# Altium footprint library Connector_JST.PcbLib: 558 footprints (part 25 of 35)
Each footprint in its own frame and in the unit in brackets; x right, y up, seen from the top. Pads: shape width x height; smd on the part's side, far side on the other; paste and mask are expansions set on the pad; w line width, h text height; cw(c..) or ccw(c..) is an arc to the next point about the centre after c.
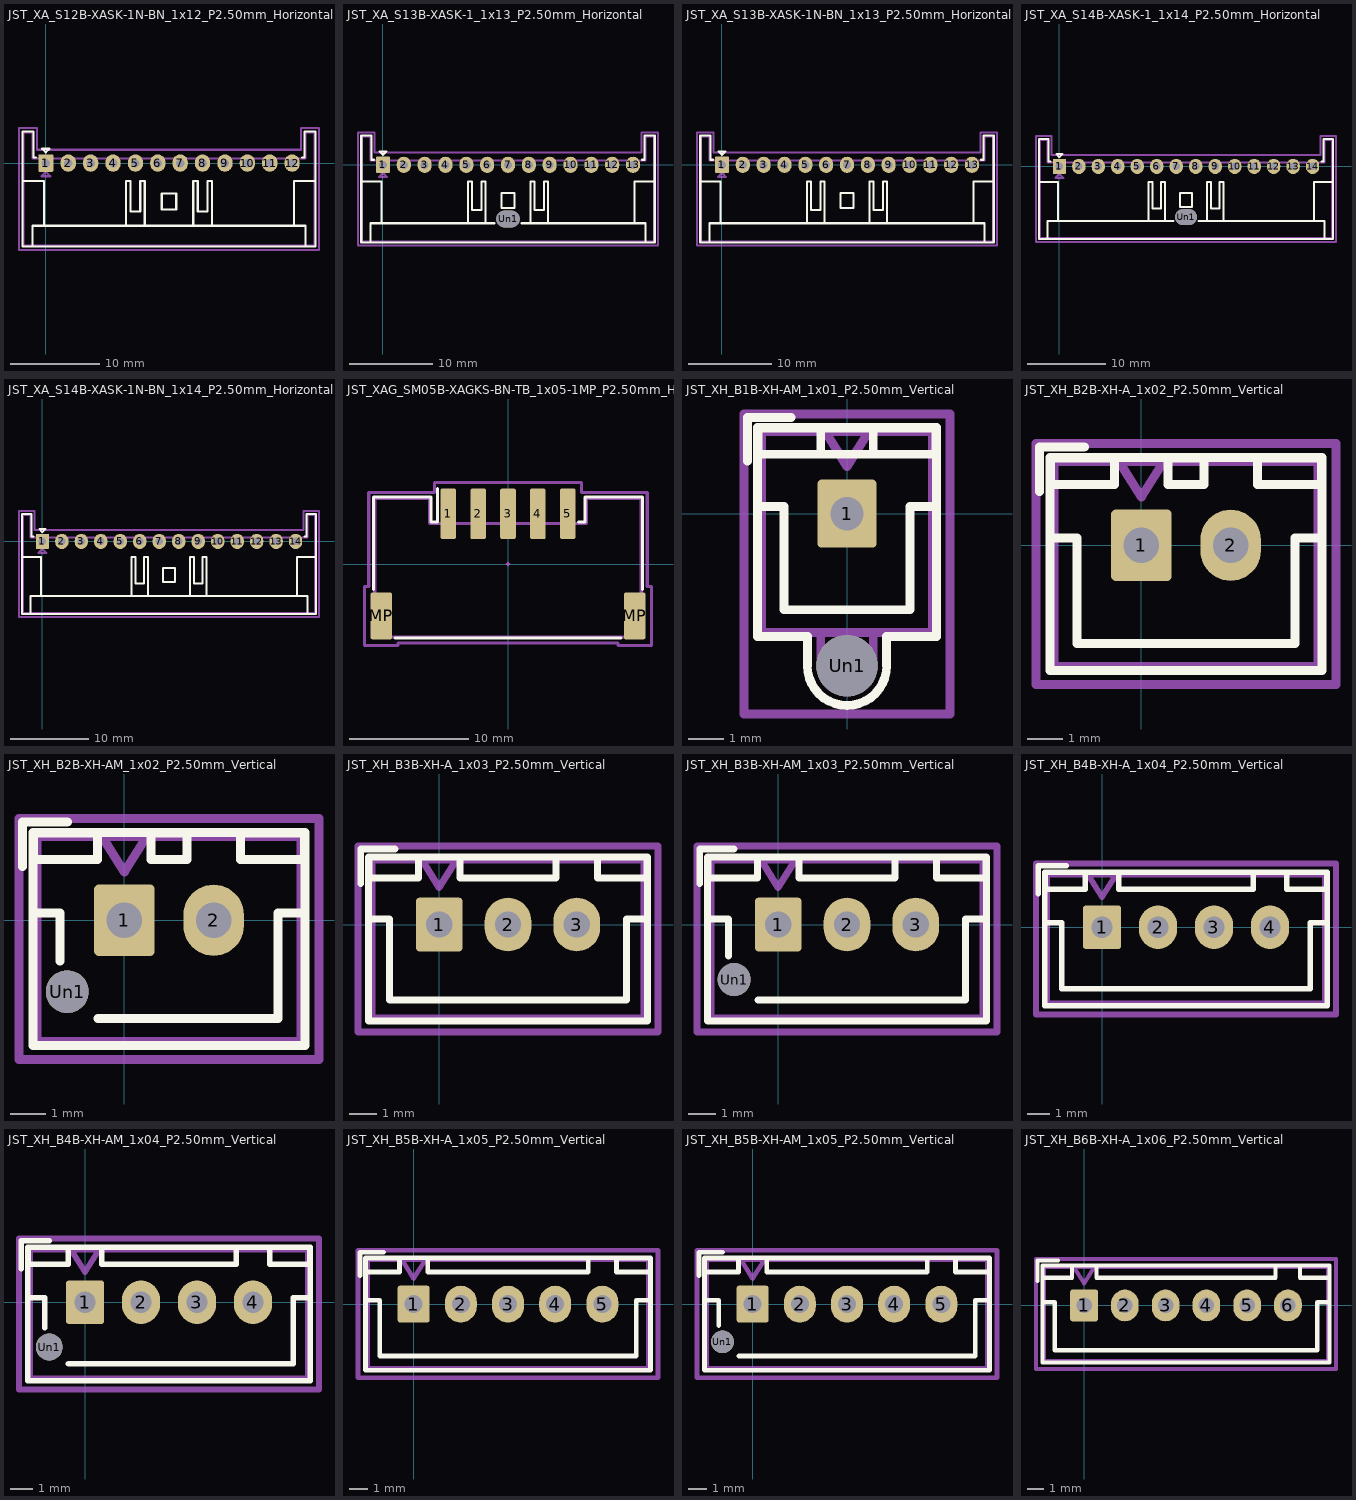
[diagram p24: the footprints below, top view; thin cyan lines are the x and y axes]

## JST_XA_S12B-XASK-1N-BN_1x12_P2.50mm_Horizontal [mm] "JST_XA_S12B-XASK-1N-BN_1x12_P2.50mm_Horizontal"
pads (12):
  rrect15% 1.7x1.95 hole 0.95: 1(0,0)
  rrect100% 1.7x1.95 hole 0.95: 2(2.5,0) 3(5,0) 4(7.5,0) 5(10,0) 6(12.5,0) 7(15,0) 8(17.5,0) 9(20,0) 10(22.5,0) 11(25,0) 12(27.5,0)
F.SilkS:
  lines w0.254: -2.61,-2 -0.2,-2 -0.2,-7.01 ; -1.5,-9.31 -1.5,-7.01 29,-7.01 29,-9.31 ; -1.11,0.61 -1.39,0.61 -1.39,3.51 -2.61,3.51 -2.61,-9.31 30.11,-9.31 30.11,3.51 28.89,3.51 28.89,0.61 28.61,0.61 ; 8.95,-7.01 8.95,-2 9.45,-2 9.45,-5.41 10.55,-5.41 10.55,-2 11.05,-2 11.05,-7.01 ; 16.45,-7.01 16.45,-2 16.95,-2 16.95,-5.41 18.05,-5.41 18.05,-2 18.55,-2 18.55,-7.01 ; 27.7,-7.01 27.7,-2 30.11,-2 ; -0.4,1.6 0,1.2 0.4,1.6 -0.4,1.6 ; 12.95,-5.2 14.55,-5.2 14.55,-3.4 12.95,-3.4 12.95,-5.2
Top Component Center:
  lines w0.127: -0.127,0 0.127,0 ; 0,-0.127 0,0.127
Top Assembly:
  lines w0.254: -2.5,-9.2 30,-9.2 30,3.4 29,3.4 29,0.5 -1.5,0.5 -1.5,3.4 -2.5,3.4 -2.5,-9.2 ; -0.5,-1.475 0,-0.975 0.5,-1.475 -0.5,-1.475
Top Courtyard:
  lines w0.254: -3,-9.7 30.5,-9.7 30.5,3.9 28.5,3.9 28.5,1.48 -1,1.48 -1,3.9 -3,3.9 -3,-9.7
Top Designator:
  text ".Designator" at 10.159,-1.868 h1.52

## JST_XA_S13B-XASK-1_1x13_P2.50mm_Horizontal [mm] "JST_XA_S13B-XASK-1_1x13_P2.50mm_Horizontal"
pads (14):
  rrect15% 1.7x1.95 hole 0.95: 1(0,0)
  rrect100% 1.7x1.95 hole 0.95: 2(2.5,0) 3(5,0) 4(7.5,0) 5(10,0) 6(12.5,0) 7(15,0) 8(17.5,0) 9(20,0) 10(22.5,0) 11(25,0) 12(27.5,0) 13(30,0)
  rrect100% 2.8x2 hole 2 slot 2.8 at 0 deg: Un1(15,-6.5)
F.SilkS:
  lines w0.254: -2.61,-2 -0.2,-2 -0.2,-7.01 ; -1.5,-9.31 -1.5,-7.01 13.4,-7.01 ; -1.11,0.61 -1.39,0.61 -1.39,3.51 -2.61,3.51 -2.61,-9.31 32.61,-9.31 32.61,3.51 31.39,3.51 31.39,0.61 31.11,0.61 ; 10.2,-7.01 10.2,-2 10.7,-2 10.7,-5.41 11.8,-5.41 11.8,-2 12.3,-2 12.3,-7.01 ; 16.6,-7.01 31.5,-7.01 31.5,-9.31 ; 17.7,-7.01 17.7,-2 18.2,-2 18.2,-5.41 19.3,-5.41 19.3,-2 19.8,-2 19.8,-7.01 ; 30.2,-7.01 30.2,-2 32.61,-2 ; -0.4,1.6 0,1.2 0.4,1.6 -0.4,1.6 ; 14.2,-5.2 15.8,-5.2 15.8,-3.4 14.2,-3.4 14.2,-5.2
Top Component Center:
  lines w0.127: -0.127,0 0.127,0 ; 0,-0.127 0,0.127
Top Assembly:
  lines w0.254: -2.5,-9.2 32.5,-9.2 32.5,3.4 31.5,3.4 31.5,0.5 -1.5,0.5 -1.5,3.4 -2.5,3.4 -2.5,-9.2 ; -0.5,-1.475 0,-0.975 0.5,-1.475 -0.5,-1.475
Top Courtyard:
  lines w0.254: -3,-9.7 33,-9.7 33,3.9 31,3.9 31,1.48 -1,1.48 -1,3.9 -3,3.9 -3,-9.7
Top Designator:
  text ".Designator" at 11.556,-1.995 h1.52

## JST_XA_S13B-XASK-1N-BN_1x13_P2.50mm_Horizontal [mm] "JST_XA_S13B-XASK-1N-BN_1x13_P2.50mm_Horizontal"
pads (13):
  rrect15% 1.7x1.95 hole 0.95: 1(0,0)
  rrect100% 1.7x1.95 hole 0.95: 2(2.5,0) 3(5,0) 4(7.5,0) 5(10,0) 6(12.5,0) 7(15,0) 8(17.5,0) 9(20,0) 10(22.5,0) 11(25,0) 12(27.5,0) 13(30,0)
F.SilkS:
  lines w0.254: -2.61,-2 -0.2,-2 -0.2,-7.01 ; -1.5,-9.31 -1.5,-7.01 31.5,-7.01 31.5,-9.31 ; -1.11,0.61 -1.39,0.61 -1.39,3.51 -2.61,3.51 -2.61,-9.31 32.61,-9.31 32.61,3.51 31.39,3.51 31.39,0.61 31.11,0.61 ; 10.2,-7.01 10.2,-2 10.7,-2 10.7,-5.41 11.8,-5.41 11.8,-2 12.3,-2 12.3,-7.01 ; 17.7,-7.01 17.7,-2 18.2,-2 18.2,-5.41 19.3,-5.41 19.3,-2 19.8,-2 19.8,-7.01 ; 30.2,-7.01 30.2,-2 32.61,-2 ; -0.4,1.6 0.4,1.6 0,1.2 -0.4,1.6 ; 14.2,-5.2 14.2,-3.4 15.8,-3.4 15.8,-5.2 14.2,-5.2
Top Component Center:
  lines w0.127: -0.127,0 0.127,0 ; 0,-0.127 0,0.127
Top Assembly:
  lines w0.254: -2.5,-9.2 -2.5,3.4 -1.5,3.4 -1.5,0.5 31.5,0.5 31.5,3.4 32.5,3.4 32.5,-9.2 -2.5,-9.2 ; -0.5,-1.475 0.5,-1.475 0,-0.975 -0.5,-1.475
Top Courtyard:
  lines w0.254: -3,-9.7 -3,3.9 -1,3.9 -1,1.48 31,1.48 31,3.9 33,3.9 33,-9.7 -3,-9.7
Top Designator:
  text ".Designator" at 11.556,-2.122 h1.52

## JST_XA_S14B-XASK-1_1x14_P2.50mm_Horizontal [mm] "JST_XA_S14B-XASK-1_1x14_P2.50mm_Horizontal"
pads (15):
  rrect15% 1.7x1.95 hole 0.95: 1(0,0)
  rrect100% 1.7x1.95 hole 0.95: 2(2.5,0) 3(5,0) 4(7.5,0) 5(10,0) 6(12.5,0) 7(15,0) 8(17.5,0) 9(20,0) 10(22.5,0) 11(25,0) 12(27.5,0) 13(30,0) 14(32.5,0)
  rrect100% 2.8x2 hole 2 slot 2.8 at 0 deg: Un1(16.25,-6.5)
F.SilkS:
  lines w0.254: -2.61,-2 -0.2,-2 -0.2,-7.01 ; -1.5,-9.31 -1.5,-7.01 14.65,-7.01 ; -1.11,0.61 -1.39,0.61 -1.39,3.51 -2.61,3.51 -2.61,-9.31 35.11,-9.31 35.11,3.51 33.89,3.51 33.89,0.61 33.61,0.61 ; 11.45,-7.01 11.45,-2 11.95,-2 11.95,-5.41 13.05,-5.41 13.05,-2 13.55,-2 13.55,-7.01 ; 17.85,-7.01 34,-7.01 34,-9.31 ; 18.95,-7.01 18.95,-2 19.45,-2 19.45,-5.41 20.55,-5.41 20.55,-2 21.05,-2 21.05,-7.01 ; 32.7,-7.01 32.7,-2 35.11,-2 ; -0.4,1.6 0,1.2 0.4,1.6 -0.4,1.6 ; 15.45,-5.2 17.05,-5.2 17.05,-3.4 15.45,-3.4 15.45,-5.2
Top Component Center:
  lines w0.127: -0.127,0 0.127,0 ; 0,-0.127 0,0.127
Top Assembly:
  lines w0.254: -2.5,-9.2 35,-9.2 35,3.4 34,3.4 34,0.5 -1.5,0.5 -1.5,3.4 -2.5,3.4 -2.5,-9.2 ; -0.5,-1.475 0,-0.975 0.5,-1.475 -0.5,-1.475
Top Courtyard:
  lines w0.254: -3,-9.7 35.5,-9.7 35.5,3.9 33.5,3.9 33.5,1.48 -1,1.48 -1,3.9 -3,3.9 -3,-9.7
Top Designator:
  text ".Designator" at 12.826,-1.868 h1.52

## JST_XA_S14B-XASK-1N-BN_1x14_P2.50mm_Horizontal [mm] "JST_XA_S14B-XASK-1N-BN_1x14_P2.50mm_Horizontal"
pads (14):
  rrect15% 1.7x1.95 hole 0.95: 1(0,0)
  rrect100% 1.7x1.95 hole 0.95: 2(2.5,0) 3(5,0) 4(7.5,0) 5(10,0) 6(12.5,0) 7(15,0) 8(17.5,0) 9(20,0) 10(22.5,0) 11(25,0) 12(27.5,0) 13(30,0) 14(32.5,0)
F.SilkS:
  lines w0.254: -2.61,-2 -0.2,-2 -0.2,-7.01 ; -1.5,-9.31 -1.5,-7.01 34,-7.01 34,-9.31 ; -1.11,0.61 -1.39,0.61 -1.39,3.51 -2.61,3.51 -2.61,-9.31 35.11,-9.31 35.11,3.51 33.89,3.51 33.89,0.61 33.61,0.61 ; 11.45,-7.01 11.45,-2 11.95,-2 11.95,-5.41 13.05,-5.41 13.05,-2 13.55,-2 13.55,-7.01 ; 18.95,-7.01 18.95,-2 19.45,-2 19.45,-5.41 20.55,-5.41 20.55,-2 21.05,-2 21.05,-7.01 ; 32.7,-7.01 32.7,-2 35.11,-2 ; -0.4,1.6 0,1.2 0.4,1.6 -0.4,1.6 ; 15.45,-5.2 17.05,-5.2 17.05,-3.4 15.45,-3.4 15.45,-5.2
Top Component Center:
  lines w0.127: -0.127,0 0.127,0 ; 0,-0.127 0,0.127
Top Assembly:
  lines w0.254: -2.5,-9.2 35,-9.2 35,3.4 34,3.4 34,0.5 -1.5,0.5 -1.5,3.4 -2.5,3.4 -2.5,-9.2 ; -0.5,-1.475 0,-0.975 0.5,-1.475 -0.5,-1.475
Top Courtyard:
  lines w0.254: -3,-9.7 35.5,-9.7 35.5,3.9 33.5,3.9 33.5,1.48 -1,1.48 -1,3.9 -3,3.9 -3,-9.7
Top Designator:
  text ".Designator" at 12.826,-1.741 h1.52

## JST_XAG_SM05B-XAGKS-BN-TB_1x05-1MP_P2.50mm_Horizontal [mm] "JST_XAG_SM05B-XAGKS-BN-TB_1x05-1MP_P2.50mm_Horizontal"
pads (7):
  rrect19% 1.3x4.2 smd: 1(-5,4.2) 2(-2.5,4.2) 3(0,4.2) 4(2.5,4.2) 5(5,4.2)
  rrect14% 1.8x3.9 smd: MP(-10.6,-4.35) MP(10.6,-4.35)
F.SilkS:
  lines w0.254: -11.26,-2.14 -11.26,5.61 -6.44,5.61 -6.44,3.51 -5.91,3.51 -5.91,6.3 ; -9.44,-6.21 9.44,-6.21 ; 5.91,3.51 6.44,3.51 6.44,5.61 11.26,5.61 11.26,-2.14
Top Component Center:
  lines w0.127: -0.127,0 0.127,0 ; 0,-0.127 0,0.127
Top Assembly:
  lines w0.254: -5.5,3.4 -5,2.693 -4.5,3.4 ; -11.15,-6.1 11.15,-6.1 11.15,5.5 6.55,5.5 6.55,3.4 -6.55,3.4 -6.55,5.5 -11.15,5.5 -11.15,-6.1
Top Courtyard:
  lines w0.254: -12,-6.8 -9.2,-6.8 -9.2,-6.6 9.2,-6.6 9.2,-6.8 12,-6.8 12,-1.89 11.65,-1.89 11.65,6 6.15,6 6.15,6.8 -6.15,6.8 -6.15,6 -11.65,6 -11.65,-1.89 -12,-1.89 -12,-6.8
Top Designator:
  text ".Designator" at -3.43,-0.344 h1.52

## JST_XH_B1B-XH-AM_1x01_P2.50mm_Vertical [mm] "JST_XH_B1B-XH-AM_1x01_P2.50mm_Vertical"
pads (2):
  rrect15% 1.7x1.95 hole 0.95: 1(0,0)
  round 1.75 hole 1.75: Un1(0,-4.35)
F.SilkS:
  lines w0.254: -2.85,1.5 -2.85,2.75 -1.6,2.75 ; -2.55,0.2 -1.8,0.2 -1.8,-2.75 0,-2.75 1.8,-2.75 1.8,0.2 2.55,0.2 ; -0.75,1.7 -2.55,1.7 -2.55,2.45 -0.75,2.45 ; -0.75,1.7 -0.75,2.45 ; -0.75,1.7 -0.75,2.45 ; -0.75,1.7 0.75,1.7 ; -0.75,2.45 0.75,2.45 ; 0.75,1.7 0.75,2.45 ; 0.75,1.7 0.75,2.45 ; 0.75,1.7 2.55,1.7 2.55,2.45 0.75,2.45 ; -2.56,-3.51 -2.56,2.46 2.56,2.46 2.56,-3.51 1.135,-3.51 1.135,-4.35 cw(c0,-4.35) -1.135,-4.35 -1.135,-3.51 -2.56,-3.51
Top Component Center:
  lines w0.127: -0.127,0 0.127,0 ; 0,-0.127 0,0.127
Top Assembly:
  lines w0.254: -0.625,2.35 0,1.35 0.625,2.35 ; -2.45,-3.4 -2.45,2.35 ; -2.45,-3.4 -2.45,2.35 ; -2.45,-3.4 2.45,-3.4 ; -2.45,-3.4 -0.75,-3.4 -0.75,-4.35 ccw(c0,-4.35) 0.75,-4.35 0.75,-3.4 2.45,-3.4 ; -2.45,2.35 2.45,2.35 ; -2.45,2.35 2.45,2.35 ; 2.45,-3.4 2.45,2.35 ; 2.45,-3.4 2.45,2.35
Top Courtyard:
  lines w0.254: -2.95,-5.73 -2.95,2.85 2.95,2.85 2.95,-5.73 -2.95,-5.73
Top Designator:
  text ".Designator" at -3.303,-2.122 h1.52

## JST_XH_B2B-XH-A_1x02_P2.50mm_Vertical [mm] "JST_XH_B2B-XH-A_1x02_P2.50mm_Vertical"
pads (2):
  rrect15% 1.7x2 hole 1: 1(0,0)
  rrect100% 1.7x2 hole 1: 2(2.5,0)
F.SilkS:
  lines w0.254: -2.85,1.5 -2.85,2.75 -1.6,2.75 ; -2.55,0.2 -1.8,0.2 -1.8,-2.75 1.25,-2.75 4.3,-2.75 4.3,0.2 5.05,0.2 ; -2.56,-3.51 5.06,-3.51 5.06,2.46 -2.56,2.46 -2.56,-3.51 ; -2.55,1.7 -0.75,1.7 -0.75,2.45 -2.55,2.45 -2.55,1.7 ; 0.75,1.7 1.75,1.7 1.75,2.45 0.75,2.45 0.75,1.7 ; 3.25,1.7 5.05,1.7 5.05,2.45 3.25,2.45 3.25,1.7
Top Component Center:
  lines w0.127: -0.127,0 0.127,0 ; 0,-0.127 0,0.127
Top Assembly:
  lines w0.254: -0.625,2.35 0,1.35 0.625,2.35 ; -2.45,-3.4 4.95,-3.4 4.95,2.35 -2.45,2.35 -2.45,-3.4
Top Courtyard:
  lines w0.254: -2.95,-3.9 5.45,-3.9 5.45,2.85 -2.95,2.85 -2.95,-3.9
Top Designator:
  text ".Designator" at -2.287,-2.249 h1.52
3D body "JST_XH_B2B-XH-A_1x02_P2.50mm_Vertical.step": height 7, standoff -3.4, extent -2.45,-3.4 4.95,2.35

## JST_XH_B2B-XH-AM_1x02_P2.50mm_Vertical [mm] "JST_XH_B2B-XH-AM_1x02_P2.50mm_Vertical"
pads (3):
  rrect15% 1.7x2 hole 1: 1(0,0)
  rrect100% 1.7x2 hole 1: 2(2.5,0)
  round 1.2 hole 1.2: Un1(-1.6,-2)
F.SilkS:
  lines w0.254: -2.85,1.5 -2.85,2.75 -1.6,2.75 ; -2.55,0.2 -1.8,0.2 -1.8,-1.14 ; -0.74,-2.75 1.25,-2.75 4.3,-2.75 4.3,0.2 5.05,0.2 ; -2.56,-3.51 5.06,-3.51 5.06,2.46 -2.56,2.46 -2.56,-3.51 ; -2.55,1.7 -0.75,1.7 -0.75,2.45 -2.55,2.45 -2.55,1.7 ; 0.75,1.7 1.75,1.7 1.75,2.45 0.75,2.45 0.75,1.7 ; 3.25,1.7 5.05,1.7 5.05,2.45 3.25,2.45 3.25,1.7
Top Component Center:
  lines w0.127: -0.127,0 0.127,0 ; 0,-0.127 0,0.127
Top Assembly:
  lines w0.254: -0.625,2.35 0,1.35 0.625,2.35 ; -2.45,-3.4 4.95,-3.4 4.95,2.35 -2.45,2.35 -2.45,-3.4
Top Courtyard:
  lines w0.254: -2.95,-3.9 5.45,-3.9 5.45,2.85 -2.95,2.85 -2.95,-3.9
Top Designator:
  text ".Designator" at -2.16,-2.122 h1.52

## JST_XH_B3B-XH-A_1x03_P2.50mm_Vertical [mm] "JST_XH_B3B-XH-A_1x03_P2.50mm_Vertical"
pads (3):
  rrect15% 1.7x1.95 hole 0.95: 1(0,0)
  rrect100% 1.7x1.95 hole 0.95: 2(2.5,0) 3(5,0)
F.SilkS:
  lines w0.254: -2.85,1.5 -2.85,2.75 -1.6,2.75 ; -2.55,0.2 -1.8,0.2 -1.8,-2.75 2.5,-2.75 6.8,-2.75 6.8,0.2 7.55,0.2 ; -2.56,-3.51 7.56,-3.51 7.56,2.46 -2.56,2.46 -2.56,-3.51 ; -2.55,1.7 -0.75,1.7 -0.75,2.45 -2.55,2.45 -2.55,1.7 ; 0.75,1.7 4.25,1.7 4.25,2.45 0.75,2.45 0.75,1.7 ; 5.75,1.7 7.55,1.7 7.55,2.45 5.75,2.45 5.75,1.7
Top Component Center:
  lines w0.127: -0.127,0 0.127,0 ; 0,-0.127 0,0.127
Top Assembly:
  lines w0.254: -0.625,2.35 0,1.35 0.625,2.35 ; -2.45,-3.4 7.45,-3.4 7.45,2.35 -2.45,2.35 -2.45,-3.4
Top Courtyard:
  lines w0.254: -2.95,-3.9 7.95,-3.9 7.95,2.85 -2.95,2.85 -2.95,-3.9
Top Designator:
  text ".Designator" at -0.763,-2.122 h1.52
3D body "JST_XH_B3B-XH-A_1x03_P2.50mm_Vertical.step": height 7, standoff -3.4, extent -2.45,-3.4 7.45,2.35

## JST_XH_B3B-XH-AM_1x03_P2.50mm_Vertical [mm] "JST_XH_B3B-XH-AM_1x03_P2.50mm_Vertical"
pads (4):
  rrect15% 1.7x1.95 hole 0.95: 1(0,0)
  rrect100% 1.7x1.95 hole 0.95: 2(2.5,0) 3(5,0)
  round 1.2 hole 1.2: Un1(-1.6,-2)
F.SilkS:
  lines w0.254: -2.85,1.5 -2.85,2.75 -1.6,2.75 ; -2.55,0.2 -1.8,0.2 -1.8,-1.14 ; -0.74,-2.75 2.5,-2.75 6.8,-2.75 6.8,0.2 7.55,0.2 ; -2.56,-3.51 7.56,-3.51 7.56,2.46 -2.56,2.46 -2.56,-3.51 ; -2.55,1.7 -0.75,1.7 -0.75,2.45 -2.55,2.45 -2.55,1.7 ; 0.75,1.7 4.25,1.7 4.25,2.45 0.75,2.45 0.75,1.7 ; 5.75,1.7 7.55,1.7 7.55,2.45 5.75,2.45 5.75,1.7
Top Component Center:
  lines w0.127: -0.127,0 0.127,0 ; 0,-0.127 0,0.127
Top Assembly:
  lines w0.254: -0.625,2.35 0,1.35 0.625,2.35 ; -2.45,-3.4 7.45,-3.4 7.45,2.35 -2.45,2.35 -2.45,-3.4
Top Courtyard:
  lines w0.254: -2.95,-3.9 7.95,-3.9 7.95,2.85 -2.95,2.85 -2.95,-3.9
Top Designator:
  text ".Designator" at -0.763,-2.249 h1.52

## JST_XH_B4B-XH-A_1x04_P2.50mm_Vertical [mm] "JST_XH_B4B-XH-A_1x04_P2.50mm_Vertical"
pads (4):
  rrect15% 1.7x1.95 hole 0.95: 1(0,0)
  rrect100% 1.7x1.95 hole 0.95: 2(2.5,0) 3(5,0) 4(7.5,0)
F.SilkS:
  lines w0.254: -2.85,1.5 -2.85,2.75 -1.6,2.75 ; -2.55,0.2 -1.8,0.2 -1.8,-2.75 3.75,-2.75 9.3,-2.75 9.3,0.2 10.05,0.2 ; -2.56,-3.51 10.06,-3.51 10.06,2.46 -2.56,2.46 -2.56,-3.51 ; -2.55,1.7 -0.75,1.7 -0.75,2.45 -2.55,2.45 -2.55,1.7 ; 0.75,1.7 6.75,1.7 6.75,2.45 0.75,2.45 0.75,1.7 ; 8.25,1.7 10.05,1.7 10.05,2.45 8.25,2.45 8.25,1.7
Top Component Center:
  lines w0.127: -0.127,0 0.127,0 ; 0,-0.127 0,0.127
Top Assembly:
  lines w0.254: -0.625,2.35 0,1.35 0.625,2.35 ; -2.45,-3.4 9.95,-3.4 9.95,2.35 -2.45,2.35 -2.45,-3.4
Top Courtyard:
  lines w0.254: -2.95,-3.9 10.45,-3.9 10.45,2.85 -2.95,2.85 -2.95,-3.9
Top Designator:
  text ".Designator" at 0.253,-2.122 h1.52
3D body "JST_XH_B4B-XH-A_1x04_P2.50mm_Vertical.step": height 7, standoff -3.4, extent -2.45,-3.4 9.95,2.35

## JST_XH_B4B-XH-AM_1x04_P2.50mm_Vertical [mm] "JST_XH_B4B-XH-AM_1x04_P2.50mm_Vertical"
pads (5):
  rrect15% 1.7x1.95 hole 0.95: 1(0,0)
  rrect100% 1.7x1.95 hole 0.95: 2(2.5,0) 3(5,0) 4(7.5,0)
  round 1.2 hole 1.2: Un1(-1.6,-2)
F.SilkS:
  lines w0.254: -2.85,1.5 -2.85,2.75 -1.6,2.75 ; -2.55,0.2 -1.8,0.2 -1.8,-1.14 ; -0.74,-2.75 3.75,-2.75 9.3,-2.75 9.3,0.2 10.05,0.2 ; -2.56,-3.51 10.06,-3.51 10.06,2.46 -2.56,2.46 -2.56,-3.51 ; -2.55,1.7 -0.75,1.7 -0.75,2.45 -2.55,2.45 -2.55,1.7 ; 0.75,1.7 6.75,1.7 6.75,2.45 0.75,2.45 0.75,1.7 ; 8.25,1.7 10.05,1.7 10.05,2.45 8.25,2.45 8.25,1.7
Top Component Center:
  lines w0.127: -0.127,0 0.127,0 ; 0,-0.127 0,0.127
Top Assembly:
  lines w0.254: -0.625,2.35 0,1.35 0.625,2.35 ; -2.45,-3.4 9.95,-3.4 9.95,2.35 -2.45,2.35 -2.45,-3.4
Top Courtyard:
  lines w0.254: -2.95,-3.9 10.45,-3.9 10.45,2.85 -2.95,2.85 -2.95,-3.9
Top Designator:
  text ".Designator" at 0.507,-2.122 h1.52

## JST_XH_B5B-XH-A_1x05_P2.50mm_Vertical [mm] "JST_XH_B5B-XH-A_1x05_P2.50mm_Vertical"
pads (5):
  rrect15% 1.7x1.95 hole 0.95: 1(0,0)
  rrect100% 1.7x1.95 hole 0.95: 2(2.5,0) 3(5,0) 4(7.5,0) 5(10,0)
F.SilkS:
  lines w0.254: -2.85,1.5 -2.85,2.75 -1.6,2.75 ; -2.55,0.2 -1.8,0.2 -1.8,-2.75 5,-2.75 11.8,-2.75 11.8,0.2 12.55,0.2 ; -2.56,-3.51 12.56,-3.51 12.56,2.46 -2.56,2.46 -2.56,-3.51 ; -2.55,1.7 -0.75,1.7 -0.75,2.45 -2.55,2.45 -2.55,1.7 ; 0.75,1.7 9.25,1.7 9.25,2.45 0.75,2.45 0.75,1.7 ; 10.75,1.7 12.55,1.7 12.55,2.45 10.75,2.45 10.75,1.7
Top Component Center:
  lines w0.127: -0.127,0 0.127,0 ; 0,-0.127 0,0.127
Top Assembly:
  lines w0.254: -0.625,2.35 0,1.35 0.625,2.35 ; -2.45,-3.4 12.45,-3.4 12.45,2.35 -2.45,2.35 -2.45,-3.4
Top Courtyard:
  lines w0.254: -2.95,-3.9 12.95,-3.9 12.95,2.85 -2.95,2.85 -2.95,-3.9
Top Designator:
  text ".Designator" at 1.396,-1.995 h1.52
3D body "JST_XH_B5B-XH-A_1x05_P2.50mm_Vertical.step": height 7, standoff -3.4, extent -2.45,-3.4 12.45,2.35

## JST_XH_B5B-XH-AM_1x05_P2.50mm_Vertical [mm] "JST_XH_B5B-XH-AM_1x05_P2.50mm_Vertical"
pads (6):
  rrect15% 1.7x1.95 hole 0.95: 1(0,0)
  rrect100% 1.7x1.95 hole 0.95: 2(2.5,0) 3(5,0) 4(7.5,0) 5(10,0)
  round 1.2 hole 1.2: Un1(-1.6,-2)
F.SilkS:
  lines w0.254: -2.85,1.5 -2.85,2.75 -1.6,2.75 ; -2.55,0.2 -1.8,0.2 -1.8,-1.14 ; -0.74,-2.75 5,-2.75 11.8,-2.75 11.8,0.2 12.55,0.2 ; -2.56,-3.51 12.56,-3.51 12.56,2.46 -2.56,2.46 -2.56,-3.51 ; -2.55,1.7 -0.75,1.7 -0.75,2.45 -2.55,2.45 -2.55,1.7 ; 0.75,1.7 9.25,1.7 9.25,2.45 0.75,2.45 0.75,1.7 ; 10.75,1.7 12.55,1.7 12.55,2.45 10.75,2.45 10.75,1.7
Top Component Center:
  lines w0.127: -0.127,0 0.127,0 ; 0,-0.127 0,0.127
Top Assembly:
  lines w0.254: -0.625,2.35 0,1.35 0.625,2.35 ; -2.45,-3.4 12.45,-3.4 12.45,2.35 -2.45,2.35 -2.45,-3.4
Top Courtyard:
  lines w0.254: -2.95,-3.9 12.95,-3.9 12.95,2.85 -2.95,2.85 -2.95,-3.9
Top Designator:
  text ".Designator" at 1.523,-1.995 h1.52

## JST_XH_B6B-XH-A_1x06_P2.50mm_Vertical [mm] "JST_XH_B6B-XH-A_1x06_P2.50mm_Vertical"
pads (6):
  rrect15% 1.7x1.95 hole 0.95: 1(0,0)
  rrect100% 1.7x1.95 hole 0.95: 2(2.5,0) 3(5,0) 4(7.5,0) 5(10,0) 6(12.5,0)
F.SilkS:
  lines w0.254: -2.85,1.5 -2.85,2.75 -1.6,2.75 ; -2.55,0.2 -1.8,0.2 -1.8,-2.75 6.25,-2.75 14.3,-2.75 14.3,0.2 15.05,0.2 ; -2.56,-3.51 15.06,-3.51 15.06,2.46 -2.56,2.46 -2.56,-3.51 ; -2.55,1.7 -0.75,1.7 -0.75,2.45 -2.55,2.45 -2.55,1.7 ; 0.75,1.7 11.75,1.7 11.75,2.45 0.75,2.45 0.75,1.7 ; 13.25,1.7 15.05,1.7 15.05,2.45 13.25,2.45 13.25,1.7
Top Component Center:
  lines w0.127: -0.127,0 0.127,0 ; 0,-0.127 0,0.127
Top Assembly:
  lines w0.254: -0.625,2.35 0,1.35 0.625,2.35 ; -2.45,-3.4 14.95,-3.4 14.95,2.35 -2.45,2.35 -2.45,-3.4
Top Courtyard:
  lines w0.254: -2.95,-3.9 15.45,-3.9 15.45,2.85 -2.95,2.85 -2.95,-3.9
Top Designator:
  text ".Designator" at 2.92,-2.122 h1.52
3D body "JST_XH_B6B-XH-A_1x06_P2.50mm_Vertical.step": height 7, standoff -3.4, extent -2.45,-3.4 14.95,2.35